# EAGLE library part AT26F004 (library ads4)
Atmel AT26F004 4M serial FLASH
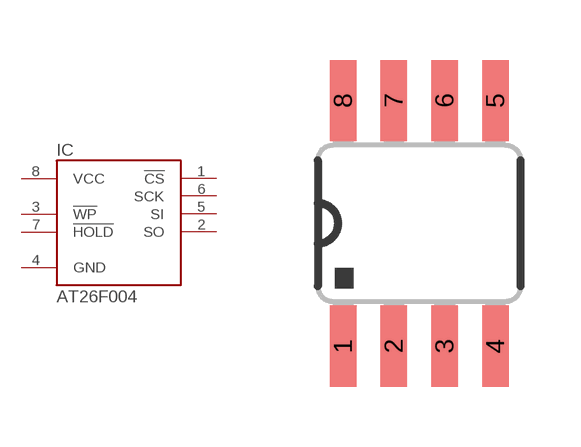
[diagram p87: symbol with the pads of SO08; footprint SO08]

Designator prefix IC

## AT26F004-SSU  [SO08]
1  !CS  in
2  SO  hiz
3  !WP  in
4  GND  pwr
5  SI  in
6  SCK  in
7  !HOLD  in
8  VCC  pwr

## Footprint SO08 (pad centres in mm)
SO08 Package from 74xx-us.lbr 0.15" body
smd 0.66 x 2.032: 1 -1.905,-3.073; 2 -0.635,-3.073; 3 0.635,-3.073; 4 1.905,-3.073; 5 1.905,3.073; 6 0.635,3.073; 7 -0.635,3.073; 8 -1.905,3.073